# EAGLE library part PLD-6 (library gost_con_pls-pld-pbs-pbd)
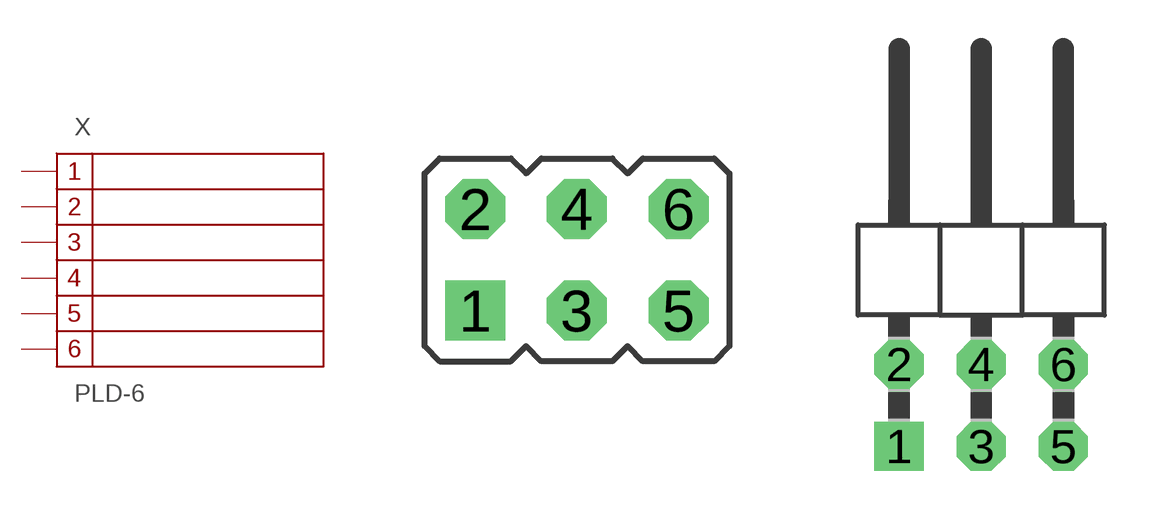
[diagram p7: symbol with the pads of PLD-6; footprints PLD-6, PLD-6R]

Designator prefix X

## PLD-6  [PLD-6]
1  1
2  2
3  3
4  4
5  5
6  6

## PLD-6R  [PLD-6R]
Pads as for PLD-6

## Footprint PLD-6 (pad centres in mm)
drill 0.9 pad 1.5 square: 1 -2.54,-1.27
drill 0.9 pad 1.5 octagon: 2 -2.54,1.27; 3 0,-1.27; 4 0,1.27; 5 2.54,-1.27; 6 2.54,1.27

## Footprint PLD-6R (pad centres in mm)
drill 1.016 square: 1 -2.54,-1.27
drill 1.016 octagon: 2 -2.54,1.27; 3 0,-1.27; 4 0,1.27; 5 2.54,-1.27; 6 2.54,1.27